# Altium footprint library DDPAK_KTW.PcbLib: 3 footprints
Each footprint in its own frame and in the unit in brackets; x right, y up, seen from the top. Pads: shape width x height; smd on the part's side, far side on the other; paste and mask are expansions set on the pad; w line width, h text height; cw(c..) or ccw(c..) is an arc to the next point about the centre after c.
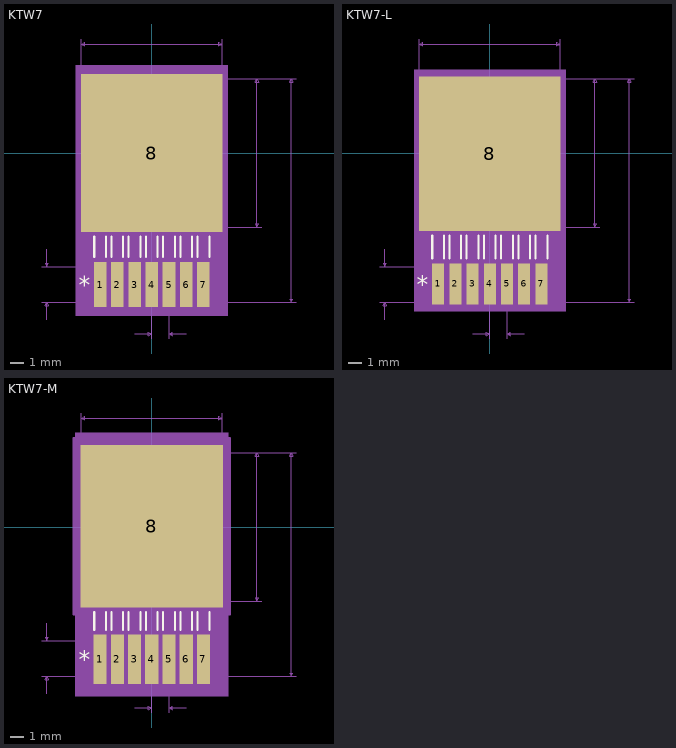
[diagram p0: the footprints below, top view; thin cyan lines are the x and y axes]

## KTW7 [mil]
pads (8):
  rect 36.36x131.56 smd paste+0 mask+0: 1(-150,-382) 2(-100,-382) 3(-50,-382) 4(0,-382) 5(50,-382) 6(100,-382) 7(150,-382)
  rect 412x460 smd paste+0 mask+0: 8(0,0)
Top Overlay:
  lines w6: -167,-302.22 -167,-243.1 ; -133,-302.22 -133,-243.1 ; -117,-302.22 -117,-243.1 ; -83,-302.22 -83,-243.1 ; -67,-302.22 -67,-243.1 ; -33,-302.22 -33,-243.1 ; -17,-302.22 -17,-243.1 ; 17,-302.22 17,-243.1 ; 33,-302.22 33,-243.1 ; 67,-302.22 67,-243.1 ; 83,-302.22 83,-243.1 ; 117,-302.22 117,-243.1 ; 133,-302.22 133,-243.1 ; 167,-302.22 167,-243.1
  text "*" at -212.5,-407 h50
Mechanical 5:
  region: -221,255 221,255 221,-472.78 -221,-472.78
Mechanical 7:
  lines w1: -320,-434 0,-434 420,-434 ; -320,-330 0,-330 ; -305,-484 -305,-434 ; -305,-280 -305,-330 ; -205,0 -205,331 ; -50,-525 0,-525 ; 0,-540 0,-325 ; 0,-216 320,-216 ; 50,-540 50,-325 ; 100,-525 50,-525 ; 205,0 205,331 ; 320,216 0,216 420,216 ; -305,-434 -310,-444 -300,-444 -305,-434 ; -305,-330 -310,-320 -300,-320 -305,-330 ; -205,316 205,316 ; -205,316 -195,321 -195,311 -205,316 ; 0,-525 -10,-520 -10,-530 0,-525 ; 50,-525 60,-520 60,-530 50,-525 ; 205,316 195,321 195,311 205,316 ; 305,-216 305,216 ; 305,-216 300,-206 310,-206 305,-216 ; 305,216 300,206 310,206 305,216 ; 405,-434 405,216 ; 405,-434 400,-424 410,-424 405,-434 ; 405,216 400,206 410,206 405,216
  text "Default Padstyle: r92_334" at -312.5,-784 h50
  text "Large Padstyle: r1046_1168" at -325,-859 h50
  text "Alt 1 Padstyle: b152_229h76" at -337.5,-934 h50
  text "Alt 2 Padstyle: b229_152h76" at -337.5,-1009 h50
  text "0.432in/10.973mm" at 325,-12.5 h25
  text "0.41in/10.414mm" at -93.75,336 h25
  text "0.65in/16.51mm" at 425,-178.5 h25
  text "0.104in/2.642mm" at -512.5,-394.5 h25
  text "0.05in/1.27mm" at -56.25,-570 h25
Mechanical 13:
  lines w1: -205,-216 205,-216 205,216 -205,216 -205,-216 ; -167,-434 -167,-216 -133,-216 -133,-434 -167,-434 ; -117,-434 -117,-216 -83,-216 -83,-434 -117,-434 ; -67,-434 -67,-216 -33,-216 -33,-434 -67,-434 ; -17,-434 -17,-216 17,-216 17,-434 -17,-434 ; 33,-434 33,-216 67,-216 67,-434 33,-434 ; 83,-434 83,-216 117,-216 117,-434 83,-434 ; 133,-434 133,-216 167,-216 167,-434 133,-434
  text "*" at -162.5,-231 h50
Mechanical 15:
  region: -178.18,-240 -216,-240 -216,240 216,240 216,-240 178.18,-240 178.18,-457.78 -178.18,-457.78
  lines w6: -216,-240 -216,240 216,240 216,-240 178.18,-240 178.18,-457.78 -178.18,-457.78 -178.18,-240 -216,-240
3D body "DDPAK_KTW7.step": height 67.09, standoff -2.01, extent -205,-390.04 205,162.04

## KTW7-L [mil]
pads (8):
  rect 34.79x119.75 smd paste+0 mask+0: 1(-150,-380.03) 2(-100,-380.03) 3(-50,-380.03) 4(0,-380.03) 5(50,-380.03) 6(100,-380.03) 7(150,-380.03)
  rect 410x448 smd paste+0 mask+0: 8(0,-2)
Top Overlay:
  lines w6: -167,-306.16 -167,-240 ; -133,-306.16 -133,-240 ; -117,-306.16 -117,-240 ; -83,-306.16 -83,-240 ; -67,-306.16 -67,-240 ; -33,-306.16 -33,-240 ; -17,-306.16 -17,-240 ; 17,-306.16 17,-240 ; 33,-306.16 33,-240 ; 67,-306.16 67,-240 ; 83,-306.16 83,-240 ; 117,-306.16 117,-240 ; 133,-306.16 133,-240 ; 167,-306.16 167,-240
  text "*" at -212.5,-405.03 h50
Mechanical 5:
  region: -220,241 220,241 220,-458.91 -220,-458.91
Mechanical 7:
  lines w1: -320,-434 0,-434 420,-434 ; -320,-330 0,-330 ; -305,-484 -305,-434 ; -305,-280 -305,-330 ; -205,0 -205,331 ; -50,-525 0,-525 ; 0,-540 0,-325 ; 0,-216 320,-216 ; 50,-540 50,-325 ; 100,-525 50,-525 ; 205,0 205,331 ; 320,216 0,216 420,216 ; -305,-434 -310,-444 -300,-444 -305,-434 ; -305,-330 -310,-320 -300,-320 -305,-330 ; -205,316 205,316 ; -205,316 -195,321 -195,311 -205,316 ; 0,-525 -10,-520 -10,-530 0,-525 ; 50,-525 60,-520 60,-530 50,-525 ; 205,316 195,321 195,311 205,316 ; 305,-216 305,216 ; 305,-216 300,-206 310,-206 305,-216 ; 305,216 300,206 310,206 305,216 ; 405,-434 405,216 ; 405,-434 400,-424 410,-424 405,-434 ; 405,216 400,206 410,206 405,216
  text "Default Padstyle: r88_304" at -312.5,-784 h50
  text "Large Padstyle: r1041_1138" at -325,-859 h50
  text "Alt 1 Padstyle: b152_229h76" at -337.5,-934 h50
  text "Alt 2 Padstyle: b229_152h76" at -337.5,-1009 h50
  text "0.432in/10.973mm" at 325,-12.5 h25
  text "0.41in/10.414mm" at -93.75,336 h25
  text "0.65in/16.51mm" at 425,-176.53 h25
  text "0.104in/2.642mm" at -512.5,-394.5 h25
  text "0.05in/1.27mm" at -56.25,-570 h25
Mechanical 13:
  lines w1: -205,-216 205,-216 205,216 -205,216 -205,-216 ; -167,-434 -167,-216 -133,-216 -133,-434 -167,-434 ; -117,-434 -117,-216 -83,-216 -83,-434 -117,-434 ; -67,-434 -67,-216 -33,-216 -33,-434 -67,-434 ; -17,-434 -17,-216 17,-216 17,-434 -17,-434 ; 33,-434 33,-216 67,-216 67,-434 33,-434 ; 83,-434 83,-216 117,-216 117,-434 83,-434 ; 133,-434 133,-216 167,-216 167,-434 133,-434
  text "*" at -162.5,-231 h50
Mechanical 15:
  region: -171.39,-230 -209,-230 -209,226 209,226 209,-230 171.39,-230 171.39,-443.91 -171.39,-443.91
  lines w6: -209,-230 -209,226 209,226 209,-230 171.39,-230 171.39,-443.91 -171.39,-443.91 -171.39,-230 -209,-230
3D body "DDPAK_KTW7-L.step": height 67.09, standoff -2.01, extent -205,-390 205,162.09
3D body: height 10, standoff 0, extent 0,0 10,10

## KTW7-M [mil]
pads (8):
  rect 37.94x143.37 smd paste+0 mask+0: 1(-150,-383.97) 2(-100,-383.97) 3(-50,-383.97) 4(0,-383.97) 5(50,-383.97) 6(100,-383.97) 7(150,-383.97)
  rect 414x472 smd paste+0 mask+0: 8(0,2)
Top Overlay:
  lines w6: -167,-298.28 -167,-247.1 ; -133,-298.28 -133,-247.1 ; -117,-298.28 -117,-247.1 ; -83,-298.28 -83,-247.1 ; -67,-298.28 -67,-247.1 ; -33,-298.28 -33,-247.1 ; -17,-298.28 -17,-247.1 ; 17,-298.28 17,-247.1 ; 33,-298.28 33,-247.1 ; 67,-298.28 67,-247.1 ; 83,-298.28 83,-247.1 ; 117,-298.28 117,-247.1 ; 133,-298.28 133,-247.1 ; 167,-298.28 167,-247.1
  text "*" at -212.5,-408.97 h50
Mechanical 5:
  region: -222,273 222,273 222,-490.65 -222,-490.65
Mechanical 7:
  lines w1: -320,-434 0,-434 420,-434 ; -320,-330 0,-330 ; -305,-484 -305,-434 ; -305,-280 -305,-330 ; -205,0 -205,331 ; -50,-525 0,-525 ; 0,-540 0,-325 ; 0,-216 320,-216 ; 50,-540 50,-325 ; 100,-525 50,-525 ; 205,0 205,331 ; 320,216 0,216 420,216 ; -305,-434 -300,-444 -310,-444 -305,-434 ; -305,-330 -300,-320 -310,-320 -305,-330 ; -205,316 -195,311 -195,321 -205,316 ; -205,316 205,316 ; 0,-525 -10,-530 -10,-520 0,-525 ; 50,-525 60,-530 60,-520 50,-525 ; 205,316 195,311 195,321 205,316 ; 305,-216 310,-206 300,-206 305,-216 ; 305,-216 305,216 ; 305,216 310,206 300,206 305,216 ; 405,-434 410,-424 400,-424 405,-434 ; 405,-434 405,216 ; 405,216 410,206 400,206 405,216
  text "0.05in/1.27mm" at -56.25,-570 h25
  text "0.104in/2.642mm" at -512.5,-394.5 h25
  text "0.65in/16.51mm" at 425,-180.47 h25
  text "0.41in/10.414mm" at -93.75,336 h25
  text "0.432in/10.973mm" at 325,-12.5 h25
  text "Alt 2 Padstyle: b229_152h76" at -337.5,-1009 h50
  text "Alt 1 Padstyle: b152_229h76" at -337.5,-934 h50
  text "Large Padstyle: r1052_1199" at -325,-859 h50
  text "Default Padstyle: r96_364" at -312.5,-784 h50
Mechanical 13:
  lines w1: -205,-216 -205,216 205,216 205,-216 -205,-216 ; -167,-434 -133,-434 -133,-216 -167,-216 -167,-434 ; -117,-434 -83,-434 -83,-216 -117,-216 -117,-434 ; -67,-434 -33,-434 -33,-216 -67,-216 -67,-434 ; -17,-434 17,-434 17,-216 -17,-216 -17,-434 ; 33,-434 67,-434 67,-216 33,-216 33,-434 ; 83,-434 117,-434 117,-216 83,-216 83,-434 ; 133,-434 167,-434 167,-216 133,-216 133,-434
  text "*" at -162.5,-231 h50
Mechanical 15:
  region: -188.97,-254 -227,-254 -227,258 227,258 227,-254 188.97,-254 188.97,-475.65 -188.97,-475.65
  lines w6: -227,-254 -188.97,-254 -188.97,-475.65 188.97,-475.65 188.97,-254 227,-254 227,258 -227,258 -227,-254
3D body "DDPAK_KTW7-M.step": height 67.09, standoff -2.01, extent -205,-395 205,157.09
3D body "KTW7-M.step": height 67.09, standoff -2.01, extent -205,-390 205,162.09
3D body: height 10, standoff 0, extent 0,0 10,10